# Altium integrated library Analog Devices Data Converters Analog-to-Digital Converters.IntLib: 2400 symbols (part 223 of 338)
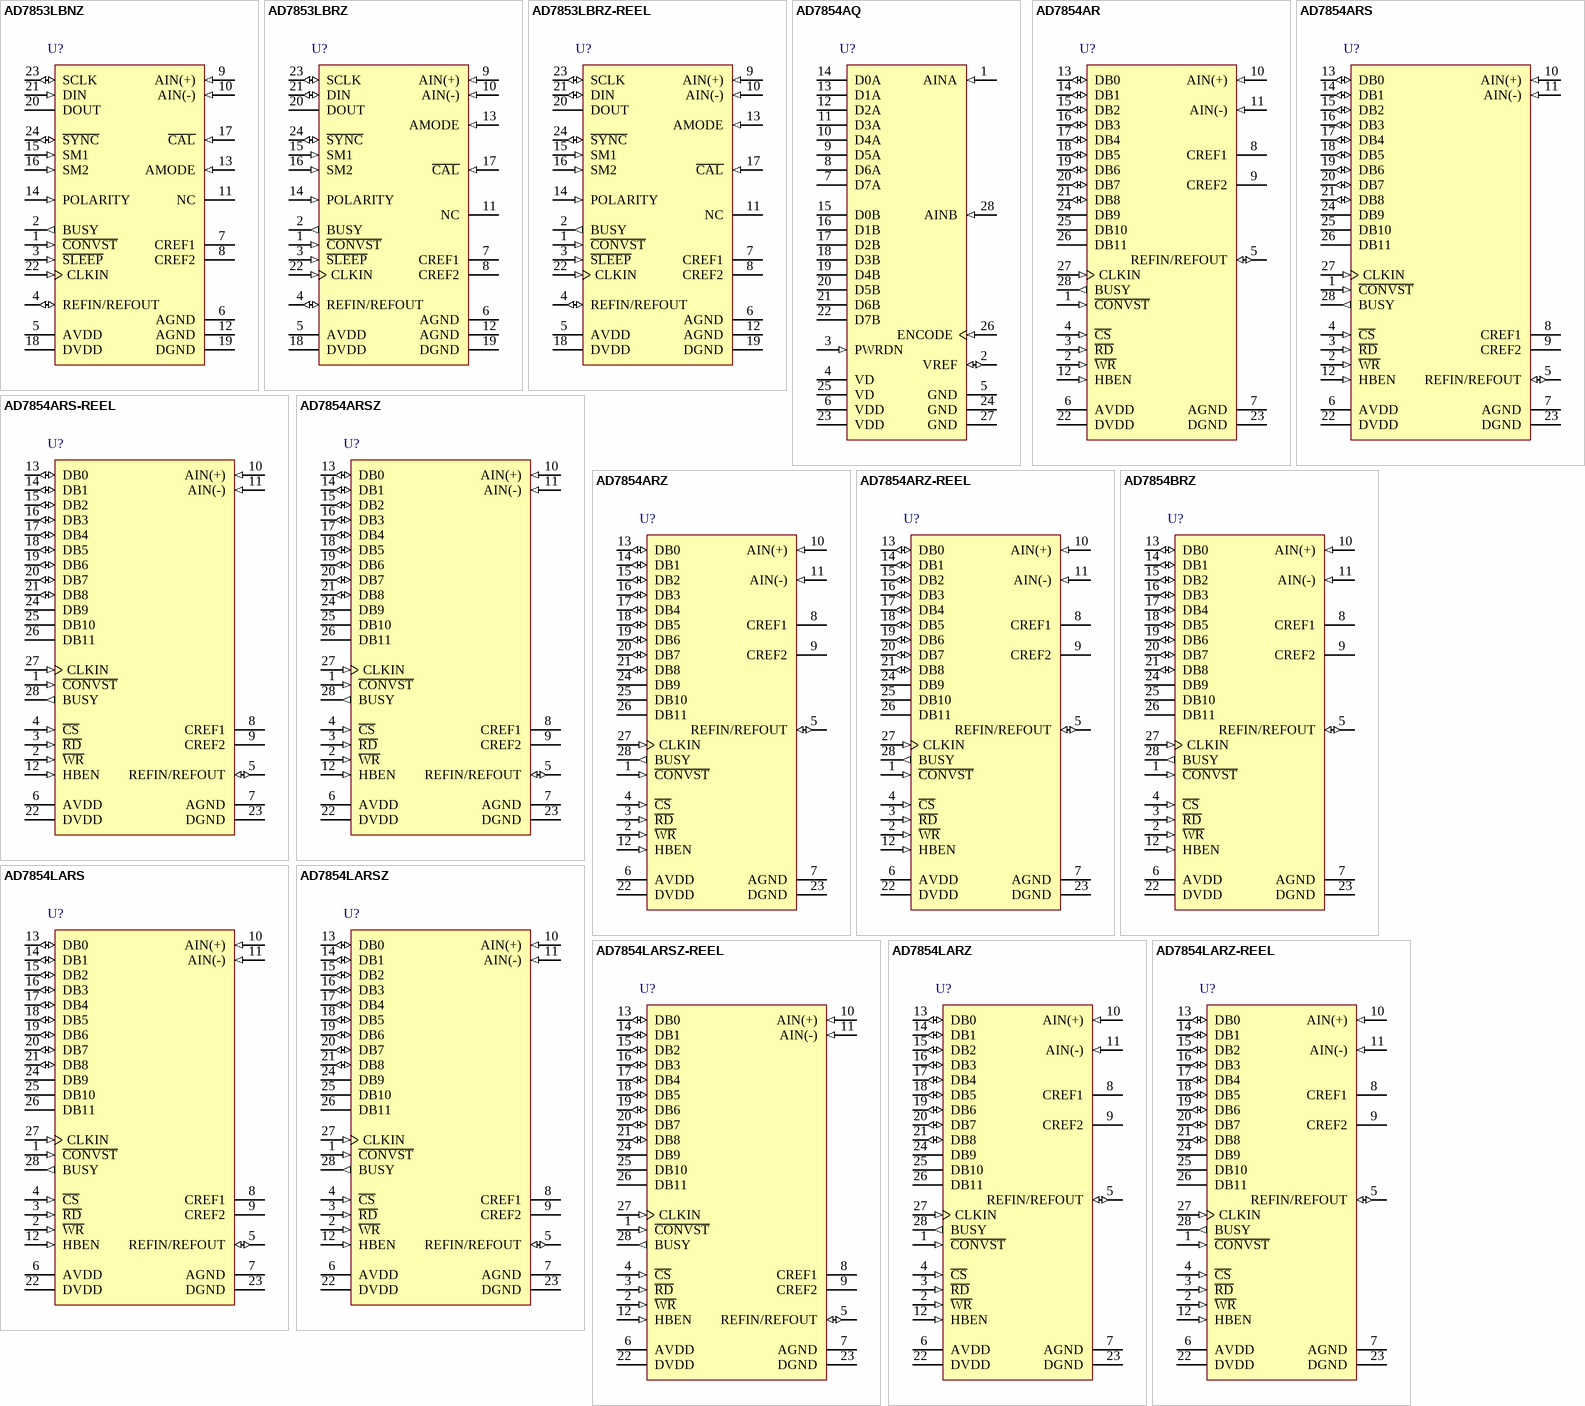
[diagram p277: symbols AD7853LBNZ to AD7854LARZ-REEL]

## AD7854LARS
designator U?
Single 12-Bit Sampling Analog-to-Digital Converter with Byte, Parallel Interface, Single Supply, 3V to 5 V 100KSPS, -40 to +85 degC, RS-28, Tube; Part Number: AD7854L-100; Manufacturer: Analog Devices; Resolution (Bits): 12; Channels: 1; Throughput Rate (SPS): 100K; DatasheetVersion: Rev.B; PackageVersion: 060106-A; PackageReference: RS-28; PackageDescription: 28-Lead Shrink Small Outline Package [SSOP]; Interface: Byte, Par; RoHS: N; Packing: Tube; Mounting Technology: Surface Mount; Code_JEDEC: MO-150-AH; ComponentLink1Description: Manufacturer URL; ComponentLink1URL: http://www.analog.com/en/index.html; ComponentLink2Description: Datasheet; ComponentLink2URL: http://www.analog.com/static/imported-files/data_sheets/AD7854_7854L.pdf; ComponentLink3Description: Package Specification; ComponentLink3URL: http://www.analog.com/static/imported-files/packages/32122249223724RS_28.pdf; ComponentLink4Description: Product URL; ComponentLink4URL: http://www.analog.com/en/analog-to-digital-converters/ad-converters/ad7854/products/product.html
footprint RS-28_N (SOP, 28-Leads, Body 10.2x5.3mm, Pitch 0.65mm, IPC Medium Density)
footprint RS-28_L (SOP, 28-Leads, Body 10.2x5.3mm, Pitch 0.65mm, IPC High Density)
footprint RS-28_M (SOP, 28-Leads, Body 10.2x5.3mm, Pitch 0.65mm, IPC Low Density)
pins: 1 ~{CONVST} (in) "Convert Start. Logic input. A low to high transition on this input puts the track/hold into its hold mode and starts conversion. When this input is not used, it should be tied to DVDD.", 2 ~{WR} (in) "Write Input.  Active low logic input.  Used in conjunction with C\S\ and HBEN to write to internal registers.", 3 ~{RD} (in) "Read Input.  Active low logic input.  Used in conjunction with C\S\ and HBEN to read from internal registers.", 4 ~{CS} (in) "Chip Select Input.  Active low logic input.  The device is selected when this input is active.", 5 REFIN/REFOUT (io) "Reference Input/Output. This pin is connected to the internal reference through a series resistor and is the reference source for the analog-to-digital converter. The nominal reference voltage is 2.5 V and this appears at (See Datasheet)", 6 AVDD (power) "Analog Positive Supply Voltage, +3.0 V to +5.5 V.", 7 AGND (power) "Analog Ground. Ground reference for track/hold, reference and DAC.", 8 CREF1 "Reference Capacitor (0.1 uF  multilayer ceramic). This external capacitor is used as a charge source for the internal DAC. The capacitor should be tied between the pin and AGND.", 9 CREF2 "Reference Capacitor (0.01 uF ceramic disc). This external capacitor is used in conjunction with the on-chip reference. The capacitor should be tied between the pin and AGND.", 10 AIN(+) (in) "Analog Input. Positive input of the pseudo-differential analog input. Cannot go below AGND or above AVDD at any time, and cannot go below AIN(-) when the unipolar input range is selected.", 11 AIN(-) (in) "Analog Input. Negative input of the pseudo-differential analog input. Cannot go below AGND or above AVDD at any time.", 12 HBEN (in) "High Byte Enable Input. The AD7854 operates in byte mode only but outputs 12 bits of data during a read cycle with HBEN low.  When HBEN is high, then the high byte of data that is written to or read from the part is on DB0 (See Datasheet)", 13 DB0 (io) "Data Bits 0. Three state data I/O pins that are controlled by C\S\, R\D\, W\R\ and HBEN.  Data output is straight binary (unipolar mode) or twos complement (bipolar mode).", 14 DB1 (io) "Data Bits 1. Three state data I/O pins that are controlled by C\S\, R\D\, W\R\ and HBEN.  Data output is straight binary (unipolar mode) or twos complement (bipolar mode).", 15 DB2 (io) "Data Bits 2. Three state data I/O pins that are controlled by C\S\, R\D\, W\R\ and HBEN.  Data output is straight binary (unipolar mode) or twos complement (bipolar mode).", 16 DB3 (io) "Data Bits 3. Three state data I/O pins that are controlled by C\S\, R\D\, W\R\ and HBEN.  Data output is straight binary (unipolar mode) or twos complement (bipolar mode).", 17 DB4 (io) "Data Bits 4. Three state data I/O pins that are controlled by C\S\, R\D\, W\R\ and HBEN.  Data output is straight binary (unipolar mode) or twos complement (bipolar mode).", 18 DB5 (io) "Data Bits 5. Three state data I/O pins that are controlled by C\S\, R\D\, W\R\ and HBEN.  Data output is straight binary (unipolar mode) or twos complement (bipolar mode).", 19 DB6 (io) "Data Bits 6. Three state data I/O pins that are controlled by C\S\, R\D\, W\R\ and HBEN.  Data output is straight binary (unipolar mode) or twos complement (bipolar mode).", 20 DB7 (io) "Data Bits 7. Three state data I/O pins that are controlled by C\S\, R\D\, W\R\ and HBEN.  Data output is straight binary (unipolar mode) or twos complement (bipolar mode).", 21 DB8 (io) "Data Bits 8. Three state data I/O pins that are controlled by C\S\, R\D\, W\R\ and HBEN.  Data output is straight binary (unipolar mode) or twos complement (bipolar mode).", 22 DVDD (power) "Digital Supply Voltage, +3.0 V to +5.5 V.", 23 DGND (power) "Digital Ground. Ground reference point for digital circuitry.", 24 DB9 (hiz) "Data Bits 9. Three state data output pins that are controlled by C\S\, R\D\ and HBEN.  Data output is straight binary (unipolar mode) or twos complement (bipolar mode). These output pins should be tied to DVDD via 100 k ohm (See Datasheet)", 25 DB10 (hiz) "Data Bits 10. Three state data output pins that are controlled by C\S\, R\D\ and HBEN.  Data output is straight binary (unipolar mode) or twos complement (bipolar mode). These output pins should be tied to DVDD via 100 k ohm (See Datasheet)", 26 DB11 (hiz) "Data Bits 11. Three state data output pins that are controlled by C\S\, R\D\ and HBEN.  Data output is straight binary (unipolar mode) or twos complement (bipolar mode). These output pins should be tied to DVDD via 100 k ohm (See Datasheet)", 27 CLKIN (in) "Master Clock Signal for the device (4 MHz for AD7854, 1.8 MHz for AD7854L). Sets the conversion and calibration times.", 28 BUSY (out) "Busy Output. The busy output is triggered high by the falling edge of C\O\N\V\S\T\ and remains high until conversion is completed. BUSY is also used to indicate when the AD7854/AD7854L has completed its onchip calibration (See Datasheet)"

## AD7854LARSZ
designator U?
Single 12-Bit Sampling Analog-to-Digital Converter with Byte, Parallel Interface, Single Supply, 3V to 5 V 100KSPS, -40 to +85 degC, RS-28, Pb-Free, Tube; Part Number: AD7854L-100; Manufacturer: Analog Devices; Resolution (Bits): 12; Channels: 1; Throughput Rate (SPS): 100K; DatasheetVersion: Rev.B; PackageVersion: 060106-A; PackageReference: RS-28; PackageDescription: 28-Lead Shrink Small Outline Package [SSOP]; Interface: Byte, Par; RoHS: Y; Packing: Tube; Mounting Technology: Surface Mount; Code_JEDEC: MO-150-AH; ComponentLink1Description: Manufacturer URL; ComponentLink1URL: http://www.analog.com/en/index.html; ComponentLink2Description: Datasheet; ComponentLink2URL: http://www.analog.com/static/imported-files/data_sheets/AD7854_7854L.pdf; ComponentLink3Description: Package Specification; ComponentLink3URL: http://www.analog.com/static/imported-files/packages/32122249223724RS_28.pdf; ComponentLink4Description: Product URL; ComponentLink4URL: http://www.analog.com/en/analog-to-digital-converters/ad-converters/ad7854/products/product.html
footprint RS-28_N (SOP, 28-Leads, Body 10.2x5.3mm, Pitch 0.65mm, IPC Medium Density)
footprint RS-28_L (SOP, 28-Leads, Body 10.2x5.3mm, Pitch 0.65mm, IPC High Density)
footprint RS-28_M (SOP, 28-Leads, Body 10.2x5.3mm, Pitch 0.65mm, IPC Low Density)
pins: 1 ~{CONVST} (in) "Convert Start. Logic input. A low to high transition on this input puts the track/hold into its hold mode and starts conversion. When this input is not used, it should be tied to DVDD.", 2 ~{WR} (in) "Write Input.  Active low logic input.  Used in conjunction with C\S\ and HBEN to write to internal registers.", 3 ~{RD} (in) "Read Input.  Active low logic input.  Used in conjunction with C\S\ and HBEN to read from internal registers.", 4 ~{CS} (in) "Chip Select Input.  Active low logic input.  The device is selected when this input is active.", 5 REFIN/REFOUT (io) "Reference Input/Output. This pin is connected to the internal reference through a series resistor and is the reference source for the analog-to-digital converter. The nominal reference voltage is 2.5 V and this appears at (See Datasheet)", 6 AVDD (power) "Analog Positive Supply Voltage, +3.0 V to +5.5 V.", 7 AGND (power) "Analog Ground. Ground reference for track/hold, reference and DAC.", 8 CREF1 "Reference Capacitor (0.1 uF  multilayer ceramic). This external capacitor is used as a charge source for the internal DAC. The capacitor should be tied between the pin and AGND.", 9 CREF2 "Reference Capacitor (0.01 uF ceramic disc). This external capacitor is used in conjunction with the on-chip reference. The capacitor should be tied between the pin and AGND.", 10 AIN(+) (in) "Analog Input. Positive input of the pseudo-differential analog input. Cannot go below AGND or above AVDD at any time, and cannot go below AIN(-) when the unipolar input range is selected.", 11 AIN(-) (in) "Analog Input. Negative input of the pseudo-differential analog input. Cannot go below AGND or above AVDD at any time.", 12 HBEN (in) "High Byte Enable Input. The AD7854 operates in byte mode only but outputs 12 bits of data during a read cycle with HBEN low.  When HBEN is high, then the high byte of data that is written to or read from the part is on DB0 (See Datasheet)", 13 DB0 (io) "Data Bits 0. Three state data I/O pins that are controlled by C\S\, R\D\, W\R\ and HBEN.  Data output is straight binary (unipolar mode) or twos complement (bipolar mode).", 14 DB1 (io) "Data Bits 1. Three state data I/O pins that are controlled by C\S\, R\D\, W\R\ and HBEN.  Data output is straight binary (unipolar mode) or twos complement (bipolar mode).", 15 DB2 (io) "Data Bits 2. Three state data I/O pins that are controlled by C\S\, R\D\, W\R\ and HBEN.  Data output is straight binary (unipolar mode) or twos complement (bipolar mode).", 16 DB3 (io) "Data Bits 3. Three state data I/O pins that are controlled by C\S\, R\D\, W\R\ and HBEN.  Data output is straight binary (unipolar mode) or twos complement (bipolar mode).", 17 DB4 (io) "Data Bits 4. Three state data I/O pins that are controlled by C\S\, R\D\, W\R\ and HBEN.  Data output is straight binary (unipolar mode) or twos complement (bipolar mode).", 18 DB5 (io) "Data Bits 5. Three state data I/O pins that are controlled by C\S\, R\D\, W\R\ and HBEN.  Data output is straight binary (unipolar mode) or twos complement (bipolar mode).", 19 DB6 (io) "Data Bits 6. Three state data I/O pins that are controlled by C\S\, R\D\, W\R\ and HBEN.  Data output is straight binary (unipolar mode) or twos complement (bipolar mode).", 20 DB7 (io) "Data Bits 7. Three state data I/O pins that are controlled by C\S\, R\D\, W\R\ and HBEN.  Data output is straight binary (unipolar mode) or twos complement (bipolar mode).", 21 DB8 (io) "Data Bits 8. Three state data I/O pins that are controlled by C\S\, R\D\, W\R\ and HBEN.  Data output is straight binary (unipolar mode) or twos complement (bipolar mode).", 22 DVDD (power) "Digital Supply Voltage, +3.0 V to +5.5 V.", 23 DGND (power) "Digital Ground. Ground reference point for digital circuitry.", 24 DB9 (hiz) "Data Bits 9. Three state data output pins that are controlled by C\S\, R\D\ and HBEN.  Data output is straight binary (unipolar mode) or twos complement (bipolar mode). These output pins should be tied to DVDD via 100 k ohm (See Datasheet)", 25 DB10 (hiz) "Data Bits 10. Three state data output pins that are controlled by C\S\, R\D\ and HBEN.  Data output is straight binary (unipolar mode) or twos complement (bipolar mode). These output pins should be tied to DVDD via 100 k ohm (See Datasheet)", 26 DB11 (hiz) "Data Bits 11. Three state data output pins that are controlled by C\S\, R\D\ and HBEN.  Data output is straight binary (unipolar mode) or twos complement (bipolar mode). These output pins should be tied to DVDD via 100 k ohm (See Datasheet)", 27 CLKIN (in) "Master Clock Signal for the device (4 MHz for AD7854, 1.8 MHz for AD7854L). Sets the conversion and calibration times.", 28 BUSY (out) "Busy Output. The busy output is triggered high by the falling edge of C\O\N\V\S\T\ and remains high until conversion is completed. BUSY is also used to indicate when the AD7854/AD7854L has completed its onchip calibration (See Datasheet)"

## AD7854LARSZ-REEL
designator U?
Single 12-Bit Sampling Analog-to-Digital Converter with Byte, Parallel Interface, Single Supply, 3V to 5 V 100KSPS, -40 to +85 degC, RS-28, Pb-Free, Reel; Part Number: AD7854L-100; Manufacturer: Analog Devices; Resolution (Bits): 12; Channels: 1; Throughput Rate (SPS): 100K; DatasheetVersion: Rev.B; PackageVersion: 060106-A; PackageReference: RS-28; PackageDescription: 28-Lead Shrink Small Outline Package [SSOP]; Interface: Byte, Par; RoHS: Y; Packing: Reel; Mounting Technology: Surface Mount; Code_JEDEC: MO-150-AH; ComponentLink1Description: Manufacturer URL; ComponentLink1URL: http://www.analog.com/en/index.html; ComponentLink2Description: Datasheet; ComponentLink2URL: http://www.analog.com/static/imported-files/data_sheets/AD7854_7854L.pdf; ComponentLink3Description: Package Specification; ComponentLink3URL: http://www.analog.com/static/imported-files/packages/32122249223724RS_28.pdf; ComponentLink4Description: Product URL; ComponentLink4URL: http://www.analog.com/en/analog-to-digital-converters/ad-converters/ad7854/products/product.html
footprint RS-28_N (SOP, 28-Leads, Body 10.2x5.3mm, Pitch 0.65mm, IPC Medium Density)
footprint RS-28_L (SOP, 28-Leads, Body 10.2x5.3mm, Pitch 0.65mm, IPC High Density)
footprint RS-28_M (SOP, 28-Leads, Body 10.2x5.3mm, Pitch 0.65mm, IPC Low Density)
pins: 1 ~{CONVST} (in) "Convert Start. Logic input. A low to high transition on this input puts the track/hold into its hold mode and starts conversion. When this input is not used, it should be tied to DVDD.", 2 ~{WR} (in) "Write Input.  Active low logic input.  Used in conjunction with C\S\ and HBEN to write to internal registers.", 3 ~{RD} (in) "Read Input.  Active low logic input.  Used in conjunction with C\S\ and HBEN to read from internal registers.", 4 ~{CS} (in) "Chip Select Input.  Active low logic input.  The device is selected when this input is active.", 5 REFIN/REFOUT (io) "Reference Input/Output. This pin is connected to the internal reference through a series resistor and is the reference source for the analog-to-digital converter. The nominal reference voltage is 2.5 V and this appears at (See Datasheet)", 6 AVDD (power) "Analog Positive Supply Voltage, +3.0 V to +5.5 V.", 7 AGND (power) "Analog Ground. Ground reference for track/hold, reference and DAC.", 8 CREF1 "Reference Capacitor (0.1 uF  multilayer ceramic). This external capacitor is used as a charge source for the internal DAC. The capacitor should be tied between the pin and AGND.", 9 CREF2 "Reference Capacitor (0.01 uF ceramic disc). This external capacitor is used in conjunction with the on-chip reference. The capacitor should be tied between the pin and AGND.", 10 AIN(+) (in) "Analog Input. Positive input of the pseudo-differential analog input. Cannot go below AGND or above AVDD at any time, and cannot go below AIN(-) when the unipolar input range is selected.", 11 AIN(-) (in) "Analog Input. Negative input of the pseudo-differential analog input. Cannot go below AGND or above AVDD at any time.", 12 HBEN (in) "High Byte Enable Input. The AD7854 operates in byte mode only but outputs 12 bits of data during a read cycle with HBEN low.  When HBEN is high, then the high byte of data that is written to or read from the part is on DB0 (See Datasheet)", 13 DB0 (io) "Data Bits 0. Three state data I/O pins that are controlled by C\S\, R\D\, W\R\ and HBEN.  Data output is straight binary (unipolar mode) or twos complement (bipolar mode).", 14 DB1 (io) "Data Bits 1. Three state data I/O pins that are controlled by C\S\, R\D\, W\R\ and HBEN.  Data output is straight binary (unipolar mode) or twos complement (bipolar mode).", 15 DB2 (io) "Data Bits 2. Three state data I/O pins that are controlled by C\S\, R\D\, W\R\ and HBEN.  Data output is straight binary (unipolar mode) or twos complement (bipolar mode).", 16 DB3 (io) "Data Bits 3. Three state data I/O pins that are controlled by C\S\, R\D\, W\R\ and HBEN.  Data output is straight binary (unipolar mode) or twos complement (bipolar mode).", 17 DB4 (io) "Data Bits 4. Three state data I/O pins that are controlled by C\S\, R\D\, W\R\ and HBEN.  Data output is straight binary (unipolar mode) or twos complement (bipolar mode).", 18 DB5 (io) "Data Bits 5. Three state data I/O pins that are controlled by C\S\, R\D\, W\R\ and HBEN.  Data output is straight binary (unipolar mode) or twos complement (bipolar mode).", 19 DB6 (io) "Data Bits 6. Three state data I/O pins that are controlled by C\S\, R\D\, W\R\ and HBEN.  Data output is straight binary (unipolar mode) or twos complement (bipolar mode).", 20 DB7 (io) "Data Bits 7. Three state data I/O pins that are controlled by C\S\, R\D\, W\R\ and HBEN.  Data output is straight binary (unipolar mode) or twos complement (bipolar mode).", 21 DB8 (io) "Data Bits 8. Three state data I/O pins that are controlled by C\S\, R\D\, W\R\ and HBEN.  Data output is straight binary (unipolar mode) or twos complement (bipolar mode).", 22 DVDD (power) "Digital Supply Voltage, +3.0 V to +5.5 V.", 23 DGND (power) "Digital Ground. Ground reference point for digital circuitry.", 24 DB9 (hiz) "Data Bits 9. Three state data output pins that are controlled by C\S\, R\D\ and HBEN.  Data output is straight binary (unipolar mode) or twos complement (bipolar mode). These output pins should be tied to DVDD via 100 k ohm (See Datasheet)", 25 DB10 (hiz) "Data Bits 10. Three state data output pins that are controlled by C\S\, R\D\ and HBEN.  Data output is straight binary (unipolar mode) or twos complement (bipolar mode). These output pins should be tied to DVDD via 100 k ohm (See Datasheet)", 26 DB11 (hiz) "Data Bits 11. Three state data output pins that are controlled by C\S\, R\D\ and HBEN.  Data output is straight binary (unipolar mode) or twos complement (bipolar mode). These output pins should be tied to DVDD via 100 k ohm (See Datasheet)", 27 CLKIN (in) "Master Clock Signal for the device (4 MHz for AD7854, 1.8 MHz for AD7854L). Sets the conversion and calibration times.", 28 BUSY (out) "Busy Output. The busy output is triggered high by the falling edge of C\O\N\V\S\T\ and remains high until conversion is completed. BUSY is also used to indicate when the AD7854/AD7854L has completed its onchip calibration (See Datasheet)"

## AD7854LARZ
designator U?
Single 12-Bit Sampling Analog-to-Digital Converter with Byte, Parallel Interface, Single Supply, 3V to 5 V 100KSPS, -40 to +85 degC, RW-28, Pb-Free, Tube; Part Number: AD7854L-100; Manufacturer: Analog Devices; Resolution (Bits): 12; Channels: 1; Throughput Rate (SPS): 100K; DatasheetVersion: Rev.B; PackageVersion: 060706-A; PackageReference: RW-28; PackageDescription: 28-Lead Standard Small Outline Package [SOIC_W]; Interface: Byte, Par; RoHS: Y; Packing: Tube; Mounting Technology: Surface Mount; Code_JEDEC: MS-013-AE; ComponentLink1Description: Manufacturer URL; ComponentLink1URL: http://www.analog.com/en/index.html; ComponentLink2Description: Datasheet; ComponentLink2URL: http://www.analog.com/static/imported-files/data_sheets/AD7854_7854L.pdf; ComponentLink3Description: Package Specification; ComponentLink3URL: http://www.analog.com/static/imported-files/packages/35833120341221RW_28.pdf; ComponentLink4Description: Product URL; ComponentLink4URL: http://www.analog.com/en/analog-to-digital-converters/ad-converters/ad7854/products/product.html
footprint RW-28_N (SOIC, 28-Leads, Body 17.9x7.5mm, Pitch 1.27mm, IPC Medium Density)
footprint RW-28_L (SOIC, 28-Leads, Body 17.9x7.5mm, Pitch 1.27mm, IPC High Density)
footprint RW-28_M (SOIC, 28-Leads, Body 17.9x7.5mm, Pitch 1.27mm, IPC Low Density)
pins: 1 ~{CONVST} (in) "Convert Start. Logic input. A low to high transition on this input puts the track/hold into its hold mode and starts conversion. When this input is not used, it should be tied to DVDD.", 2 ~{WR} (in) "Write Input.  Active low logic input.  Used in conjunction with C\S\ and HBEN to write to internal registers.", 3 ~{RD} (in) "Read Input.  Active low logic input.  Used in conjunction with C\S\ and HBEN to read from internal registers.", 4 ~{CS} (in) "Chip Select Input.  Active low logic input.  The device is selected when this input is active.", 5 REFIN/REFOUT (io) "Reference Input/Output. This pin is connected to the internal reference through a series resistor and is the reference source for the analog-to-digital converter. The nominal reference voltage is 2.5 V and this appears at (See Datasheet)", 6 AVDD (power) "Analog Positive Supply Voltage, +3.0 V to +5.5 V.", 7 AGND (power) "Analog Ground. Ground reference for track/hold, reference and DAC.", 8 CREF1 "Reference Capacitor (0.1 µF  multilayer ceramic). This external capacitor is used as a charge source for the internal DAC. The capacitor should be tied between the pin and AGND.", 9 CREF2 "Reference Capacitor (0.01 µF ceramic disc). This external capacitor is used in conjunction with the on-chip reference. The capacitor should be tied between the pin and AGND.", 10 AIN(+) (in) "Analog Input. Positive input of the pseudo-differential analog input. Cannot go below AGND or above AVDD at any time, and cannot go below AIN(-) when the unipolar input range is selected.", 11 AIN(-) (in) "Analog Input. Negative input of the pseudo-differential analog input. Cannot go below AGND or above AVDD at any time.", 12 HBEN (in) "High Byte Enable Input. The AD7854 operates in byte mode only but outputs 12 bits of data during a read cycle with HBEN low.  When HBEN is high, then the high byte of data that is written to or read from the part is on DB0 (See Datasheet)", 13 DB0 (io) "Data Bits 0. Three state data I/O pins that are controlled by C\S\, R\D\, W\R\ and HBEN.  Data output is straight binary (unipolar mode) or twos complement (bipolar mode).", 14 DB1 (io) "Data Bits 1. Three state data I/O pins that are controlled by C\S\, R\D\, W\R\ and HBEN.  Data output is straight binary (unipolar mode) or twos complement (bipolar mode).", 15 DB2 (io) "Data Bits 2. Three state data I/O pins that are controlled by C\S\, R\D\, W\R\ and HBEN.  Data output is straight binary (unipolar mode) or twos complement (bipolar mode).", 16 DB3 (io) "Data Bits 3. Three state data I/O pins that are controlled by C\S\, R\D\, W\R\ and HBEN.  Data output is straight binary (unipolar mode) or twos complement (bipolar mode).", 17 DB4 (io) "Data Bits 4. Three state data I/O pins that are controlled by C\S\, R\D\, W\R\ and HBEN.  Data output is straight binary (unipolar mode) or twos complement (bipolar mode).", 18 DB5 (io) "Data Bits 5. Three state data I/O pins that are controlled by C\S\, R\D\, W\R\ and HBEN.  Data output is straight binary (unipolar mode) or twos complement (bipolar mode).", 19 DB6 (io) "Data Bits 6. Three state data I/O pins that are controlled by C\S\, R\D\, W\R\ and HBEN.  Data output is straight binary (unipolar mode) or twos complement (bipolar mode).", 20 DB7 (io) "Data Bits 7. Three state data I/O pins that are controlled by C\S\, R\D\, W\R\ and HBEN.  Data output is straight binary (unipolar mode) or twos complement (bipolar mode).", 21 DB8 (io) "Data Bits 8. Three state data I/O pins that are controlled by C\S\, R\D\, W\R\ and HBEN.  Data output is straight binary (unipolar mode) or twos complement (bipolar mode).", 22 DVDD (power) "Digital Supply Voltage, +3.0 V to +5.5 V.", 23 DGND (power) "Digital Ground. Ground reference point for digital circuitry.", 24 DB9 (hiz) "Data Bits 9. Three state data output pins that are controlled by C\S\, R\D\ and HBEN.  Data output is straight binary (unipolar mode) or twos complement (bipolar mode). These output pins should be tied to DVDD via 100 k ohm (See Datasheet)", 25 DB10 (hiz) "Data Bits 10. Three state data output pins that are controlled by C\S\, R\D\ and HBEN.  Data output is straight binary (unipolar mode) or twos complement (bipolar mode). These output pins should be tied to DVDD via 100 k ohm (See Datasheet)", 26 DB11 (hiz) "Data Bits 11. Three state data output pins that are controlled by C\S\, R\D\ and HBEN.  Data output is straight binary (unipolar mode) or twos complement (bipolar mode). These output pins should be tied to DVDD via 100 k ohm (See Datasheet)", 27 CLKIN (in) "Master Clock Signal for the device (4 MHz for AD7854, 1.8 MHz for AD7854L). Sets the conversion and calibration times.", 28 BUSY (out) "Busy Output. The busy output is triggered high by the falling edge of C\O\N\V\S\T\ and remains high until conversion is completed. BUSY is also used to indicate when the AD7854/AD7854L has completed its onchip calibration (See Datasheet)"

## AD7854LARZ-REEL
designator U?
Single 12-Bit Sampling Analog-to-Digital Converter with Byte, Parallel Interface, Single Supply, 3V to 5 V 100KSPS, -40 to +85 degC, RW-28, Pb-Free, Reel; Part Number: AD7854L-100; Manufacturer: Analog Devices; Resolution (Bits): 12; Channels: 1; Throughput Rate (SPS): 100K; DatasheetVersion: Rev.B; PackageVersion: 060706-A; PackageReference: RW-28; PackageDescription: 28-Lead Standard Small Outline Package [SOIC_W]; Interface: Byte, Par; RoHS: Y; Packing: Reel; Mounting Technology: Surface Mount; Code_JEDEC: MS-013-AE; ComponentLink1Description: Manufacturer URL; ComponentLink1URL: http://www.analog.com/en/index.html; ComponentLink2Description: Datasheet; ComponentLink2URL: http://www.analog.com/static/imported-files/data_sheets/AD7854_7854L.pdf; ComponentLink3Description: Package Specification; ComponentLink3URL: http://www.analog.com/static/imported-files/packages/35833120341221RW_28.pdf; ComponentLink4Description: Product URL; ComponentLink4URL: http://www.analog.com/en/analog-to-digital-converters/ad-converters/ad7854/products/product.html
footprint RW-28_N (SOIC, 28-Leads, Body 17.9x7.5mm, Pitch 1.27mm, IPC Medium Density)
footprint RW-28_L (SOIC, 28-Leads, Body 17.9x7.5mm, Pitch 1.27mm, IPC High Density)
footprint RW-28_M (SOIC, 28-Leads, Body 17.9x7.5mm, Pitch 1.27mm, IPC Low Density)
pins: 1 ~{CONVST} (in) "Convert Start. Logic input. A low to high transition on this input puts the track/hold into its hold mode and starts conversion. When this input is not used, it should be tied to DVDD.", 2 ~{WR} (in) "Write Input.  Active low logic input.  Used in conjunction with C\S\ and HBEN to write to internal registers.", 3 ~{RD} (in) "Read Input.  Active low logic input.  Used in conjunction with C\S\ and HBEN to read from internal registers.", 4 ~{CS} (in) "Chip Select Input.  Active low logic input.  The device is selected when this input is active.", 5 REFIN/REFOUT (io) "Reference Input/Output. This pin is connected to the internal reference through a series resistor and is the reference source for the analog-to-digital converter. The nominal reference voltage is 2.5 V and this appears at (See Datasheet)", 6 AVDD (power) "Analog Positive Supply Voltage, +3.0 V to +5.5 V.", 7 AGND (power) "Analog Ground. Ground reference for track/hold, reference and DAC.", 8 CREF1 "Reference Capacitor (0.1 µF  multilayer ceramic). This external capacitor is used as a charge source for the internal DAC. The capacitor should be tied between the pin and AGND.", 9 CREF2 "Reference Capacitor (0.01 µF ceramic disc). This external capacitor is used in conjunction with the on-chip reference. The capacitor should be tied between the pin and AGND.", 10 AIN(+) (in) "Analog Input. Positive input of the pseudo-differential analog input. Cannot go below AGND or above AVDD at any time, and cannot go below AIN(-) when the unipolar input range is selected.", 11 AIN(-) (in) "Analog Input. Negative input of the pseudo-differential analog input. Cannot go below AGND or above AVDD at any time.", 12 HBEN (in) "High Byte Enable Input. The AD7854 operates in byte mode only but outputs 12 bits of data during a read cycle with HBEN low.  When HBEN is high, then the high byte of data that is written to or read from the part is on DB0 (See Datasheet)", 13 DB0 (io) "Data Bits 0. Three state data I/O pins that are controlled by C\S\, R\D\, W\R\ and HBEN.  Data output is straight binary (unipolar mode) or twos complement (bipolar mode).", 14 DB1 (io) "Data Bits 1. Three state data I/O pins that are controlled by C\S\, R\D\, W\R\ and HBEN.  Data output is straight binary (unipolar mode) or twos complement (bipolar mode).", 15 DB2 (io) "Data Bits 2. Three state data I/O pins that are controlled by C\S\, R\D\, W\R\ and HBEN.  Data output is straight binary (unipolar mode) or twos complement (bipolar mode).", 16 DB3 (io) "Data Bits 3. Three state data I/O pins that are controlled by C\S\, R\D\, W\R\ and HBEN.  Data output is straight binary (unipolar mode) or twos complement (bipolar mode).", 17 DB4 (io) "Data Bits 4. Three state data I/O pins that are controlled by C\S\, R\D\, W\R\ and HBEN.  Data output is straight binary (unipolar mode) or twos complement (bipolar mode).", 18 DB5 (io) "Data Bits 5. Three state data I/O pins that are controlled by C\S\, R\D\, W\R\ and HBEN.  Data output is straight binary (unipolar mode) or twos complement (bipolar mode).", 19 DB6 (io) "Data Bits 6. Three state data I/O pins that are controlled by C\S\, R\D\, W\R\ and HBEN.  Data output is straight binary (unipolar mode) or twos complement (bipolar mode).", 20 DB7 (io) "Data Bits 7. Three state data I/O pins that are controlled by C\S\, R\D\, W\R\ and HBEN.  Data output is straight binary (unipolar mode) or twos complement (bipolar mode).", 21 DB8 (io) "Data Bits 8. Three state data I/O pins that are controlled by C\S\, R\D\, W\R\ and HBEN.  Data output is straight binary (unipolar mode) or twos complement (bipolar mode).", 22 DVDD (power) "Digital Supply Voltage, +3.0 V to +5.5 V.", 23 DGND (power) "Digital Ground. Ground reference point for digital circuitry.", 24 DB9 (hiz) "Data Bits 9. Three state data output pins that are controlled by C\S\, R\D\ and HBEN.  Data output is straight binary (unipolar mode) or twos complement (bipolar mode). These output pins should be tied to DVDD via 100 k ohm (See Datasheet)", 25 DB10 (hiz) "Data Bits 10. Three state data output pins that are controlled by C\S\, R\D\ and HBEN.  Data output is straight binary (unipolar mode) or twos complement (bipolar mode). These output pins should be tied to DVDD via 100 k ohm (See Datasheet)", 26 DB11 (hiz) "Data Bits 11. Three state data output pins that are controlled by C\S\, R\D\ and HBEN.  Data output is straight binary (unipolar mode) or twos complement (bipolar mode). These output pins should be tied to DVDD via 100 k ohm (See Datasheet)", 27 CLKIN (in) "Master Clock Signal for the device (4 MHz for AD7854, 1.8 MHz for AD7854L). Sets the conversion and calibration times.", 28 BUSY (out) "Busy Output. The busy output is triggered high by the falling edge of C\O\N\V\S\T\ and remains high until conversion is completed. BUSY is also used to indicate when the AD7854/AD7854L has completed its onchip calibration (See Datasheet)"

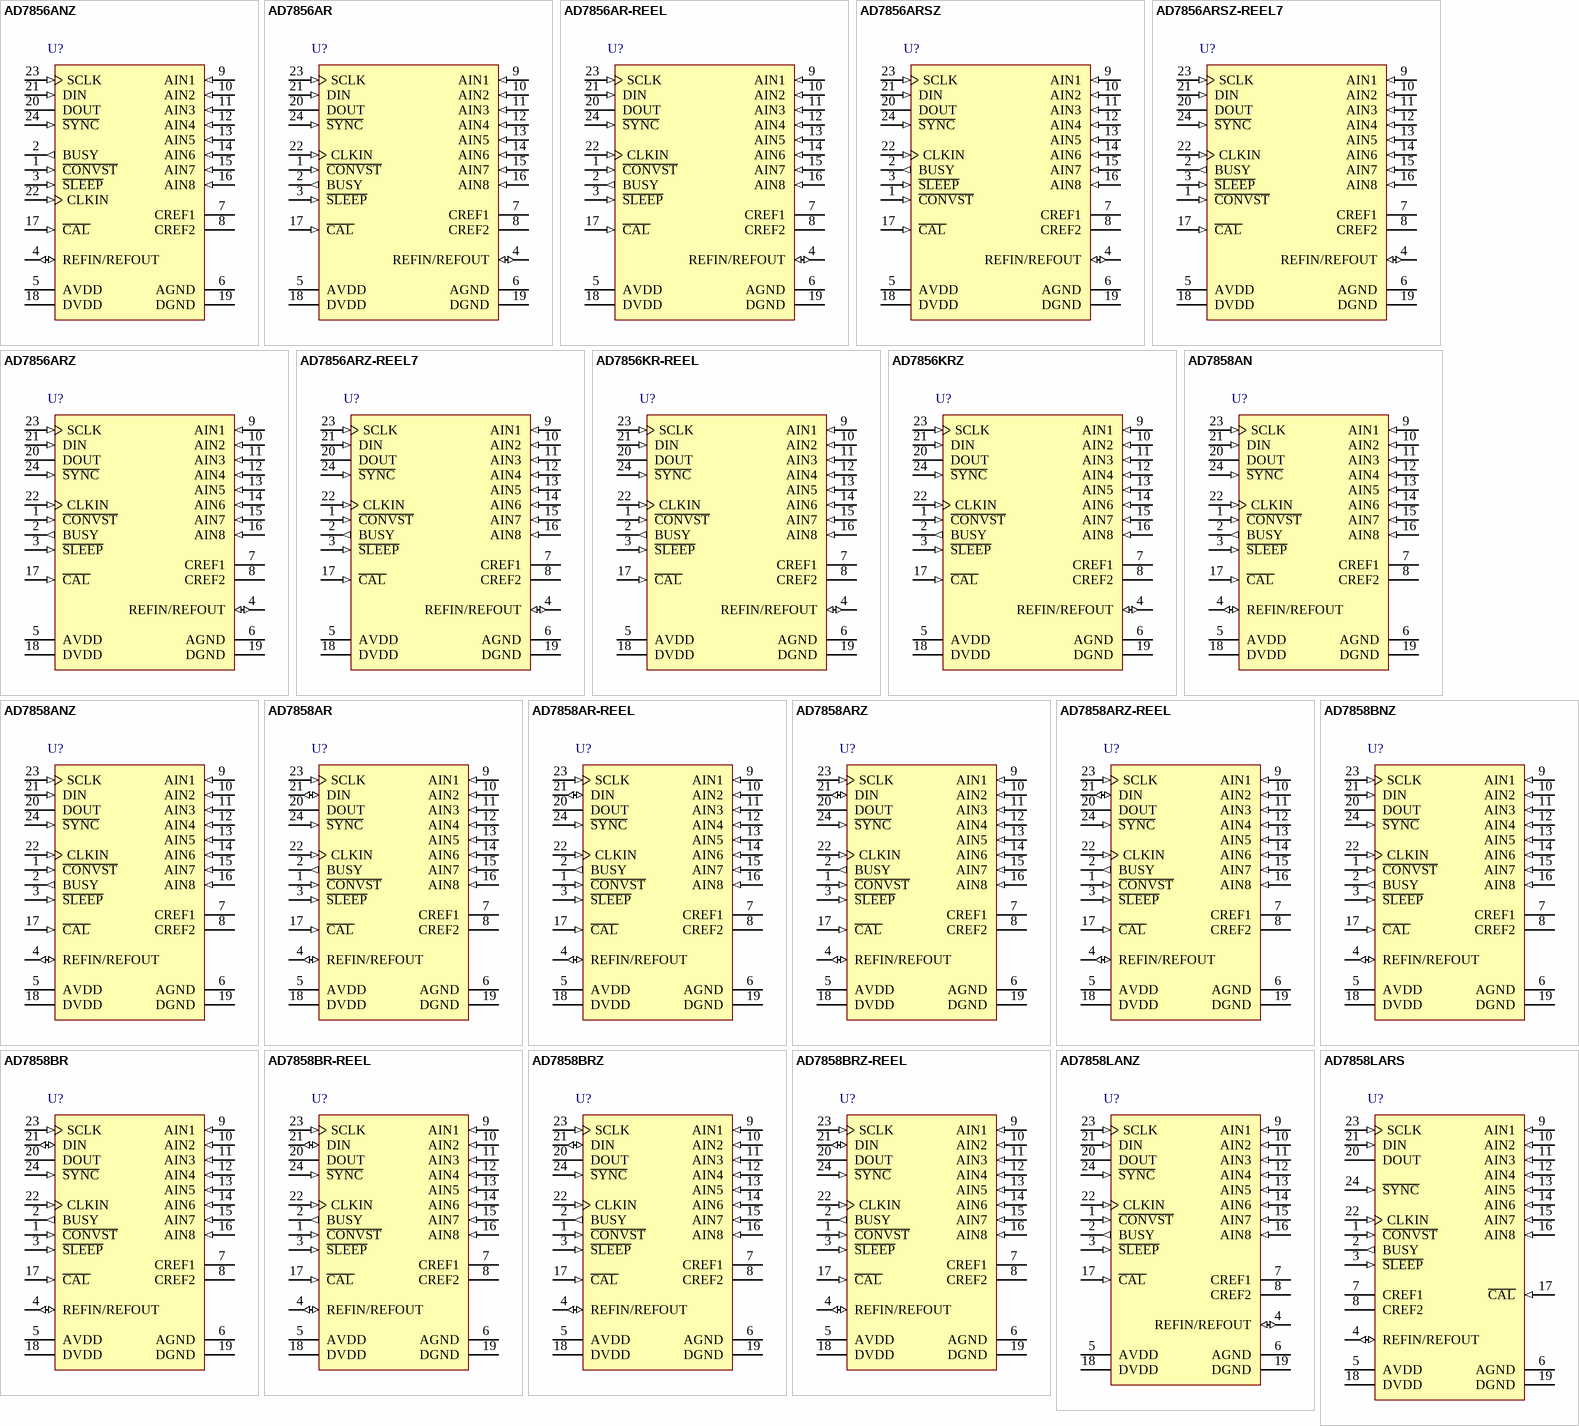
[diagram p69: symbols AD7856ANZ to AD7858LARS]

## AD7856ANZ
designator U?
Octal 14-Bit Sampling Analog-to-Digital Converter with Serial, SPI Interface, 5 V 285KSPS, -40 to +85 degC, N-24-1, Pb-Free, Tube; Part Number: AD7856; Manufacturer: Analog Devices; Resolution (Bits): 14; Channels: 8; Throughput Rate (SPS): 285K; Interface: Ser, SPI; DatasheetVersion: Rev.A; PackageVersion: 071006-A; PackageReference: N-24-1; PackageDescription: 24-Lead Plastic Dual In-Line Package [PDIP] Narrow Body; RoHS: Y; Packing: Tube; Mounting Technology: Through-hole; Code_JEDEC: MS-001; ComponentLink1Description: Manufacturer URL; ComponentLink1URL: http://www.analog.com/en/index.html; ComponentLink2Description: Datasheet; ComponentLink2URL: http://www.analog.com/static/imported-files/data_sheets/AD7856.pdf; ComponentLink3Description: Package Specification; ComponentLink3URL: http://www.analog.com/static/imported-files/packages/50726455539629N_24_1.pdf; ComponentLink4Description: Product URL; ComponentLink4URL: http://www.analog.com/en/analog-to-digital-converters/ad-converters/ad7856/products/product.html
footprint N-24-1 (DIP, 24-Leads, Row Spacing 7.62mm, Pitch 2.54mm, Body 31.9x6.6mm)
pins: 1 ~{CONVST} (in) "Convert Start. Logic Input. A low to high transition on this input puts the track/hold into its hold mode and starts conversion. When this input is not used, it should be tied to DVDD.", 2 BUSY (out) "Busy Output. The busy output is triggered high by the falling edge of C\O\N\V\S\T\ or rising edge of C\A\L\, and remains high until conversion is completed. BUSY is also used to indicate when the AD7856 has completed its (See Datasheet)", 3 ~{SLEEP} (in) "Sleep Input/Low Power Mode. A Logic 0 initiates a sleep, and all circuitry is powered down, including the internal voltage reference, provided there is no conversion or calibration being performed. Calibration data is (See Datasheet)", 4 REFIN/REFOUT (io) "Reference Input/Output. This pin is connected to the internal reference through a series resistor and is the reference source for the analog-to-digital converter. The nominal reference voltage is 4.096 V and this appears at (See Datasheet)", 5 AVDD (power) "Analog Positive Supply Voltage, +5.0 V +/- 5%.", 6 AGND (power) "Analog Ground. Ground reference for track/hold, reference and DAC.", 7 CREF1 "Reference Capacitor (0.1 mF Multilayer Ceramic in parallel with a 470 nF NPO type). This external capacitor is used as a charge source for the internal DAC. The capacitor should be tied between the pin and AGND.", 8 CREF2 "Reference Capacitor (0.01 mF Multilayer Ceramic). This external capacitor is used in conjunction with the on-chip reference. The capacitor should be tied between the pin and AGND.", 9 AIN1 (in) "Analog Inputs. Eight analog inputs that can be used as eight single-ended inputs (referenced to AGND) or four pseudo-differential inputs. Channel configuration is selected by writing to the control register. Both the (See Datasheet)", 10 AIN2 (in) "Analog Inputs. Eight analog inputs that can be used as eight single-ended inputs (referenced to AGND) or four pseudo-differential inputs. Channel configuration is selected by writing to the control register. Both the (See Datasheet)", 11 AIN3 (in) "Analog Inputs. Eight analog inputs that can be used as eight single-ended inputs (referenced to AGND) or four pseudo-differential inputs. Channel configuration is selected by writing to the control register. Both the (See Datasheet)", 12 AIN4 (in) "Analog Inputs. Eight analog inputs that can be used as eight single-ended inputs (referenced to AGND) or four pseudo-differential inputs. Channel configuration is selected by writing to the control register. Both the (See Datasheet)", 13 AIN5 (in) "Analog Inputs. Eight analog inputs that can be used as eight single-ended inputs (referenced to AGND) or four pseudo-differential inputs. Channel configuration is selected by writing to the control register. Both the (See Datasheet)", 14 AIN6 (in) "Analog Inputs. Eight analog inputs that can be used as eight single-ended inputs (referenced to AGND) or four pseudo-differential inputs. Channel configuration is selected by writing to the control register. Both the (See Datasheet)", 15 AIN7 (in) "Analog Inputs. Eight analog inputs that can be used as eight single-ended inputs (referenced to AGND) or four pseudo-differential inputs. Channel configuration is selected by writing to the control register. Both the (See Datasheet)", 16 AIN8 (in) "Analog Inputs. Eight analog inputs that can be used as eight single-ended inputs (referenced to AGND) or four pseudo-differential inputs. Channel configuration is selected by writing to the control register. Both the (See Datasheet)", 17 ~{CAL} (in) "Calibration Input. This pin has an internal pull-up current source of 0.15 mA. A falling edge on this pin resets all calibration control logic and initiates a calibration on its rising edge. There is the option of connecting (See Datasheet)", 18 DVDD (power) "Digital Supply Voltage, +5.0 V +/- 5%.", 19 DGND (power) "Digital Ground. Ground reference point for digital circuitry.", 20 DOUT (hiz) "Serial Data Output. The data output is supplied to this pin as a 16-bit serial word.", 21 DIN (in) "Serial Data Input. The data to be written is applied to this pin in serial form (16-bit word). This pin can act as an input pin or as a I/O pin depending on the serial interface mode the part is in (see Table X).", 22 CLKIN (in) "Master clock signal for the device (A Grade: 6 MHz; K Grade: 4 MHz). Sets the conversion and calibration times.", 23 SCLK (in) "Serial Port Clock. Logic Input. The user must provide a serial clock on this input.", 24 ~{SYNC} (in) "Frame Sync. Logic Input. This pin is level triggered active low and frames the serial clock for the read and write operations (see Table IX)."

## AD7856AR
designator U?
Octal 14-Bit Sampling Analog-to-Digital Converter with Serial, SPI Interface, 5 V 285KSPS, -40 to +85 degC, RW-24, Tube; Part Number: AD7856; Manufacturer: Analog Devices; Resolution (Bits): 14; Channels: 8; Throughput Rate (SPS): 285K; Interface: Ser, SPI; DatasheetVersion: Rev.A; PackageVersion: 060706-A; PackageReference: RW-24; PackageDescription: 24-Lead Standard Small Outline Package [SOIC_W]; RoHS: N; Packing: Tube; Mounting Technology: Surface Mount; Code_JEDEC: MS-013-AD; ComponentLink1Description: Manufacturer URL; ComponentLink1URL: http://www.analog.com/en/index.html; ComponentLink2Description: Datasheet; ComponentLink2URL: http://www.analog.com/static/imported-files/data_sheets/AD7856.pdf; ComponentLink3Description: Package Specification; ComponentLink3URL: http://www.analog.com/static/imported-files/packages/33665150946139RW_24.pdf; ComponentLink4Description: Product URL; ComponentLink4URL: http://www.analog.com/en/analog-to-digital-converters/ad-converters/ad7856/products/product.html
footprint RW-24_N (SOIC, 24-Leads, Body 15.4x7.5mm, Pitch 1.27mm, IPC Medium Density)
footprint RW-24_L (SOIC, 24-Leads, Body 15.4x7.5mm, Pitch 1.27mm, IPC High Density)
footprint RW-24_M (SOIC, 24-Leads, Body 15.4x7.5mm, Pitch 1.27mm, IPC Low Density)
pins: 1 ~{CONVST} (in) "Convert Start. Logic Input. A low to high transition on this input puts the track/hold into its hold mode and starts conversion. When this input is not used, it should be tied to DVDD.", 2 BUSY (out) "Busy Output. The busy output is triggered high by the falling edge of C\O\N\V\S\T\ or rising edge of C\A\L\,and remains high until conversion is completed. BUSY is also used to indicate when the AD7856 has completed its (See Datasheet)", 3 ~{SLEEP} (in) "Sleep Input/Low Power Mode. A Logic 0 initiates a sleep, and all circuitry is powered down, including the internal voltage reference, provided there is no conversion or calibration being performed. Calibration data is (See Datasheet)", 4 REFIN/REFOUT (io) "Reference Input/Output. This pin is connected to the internal reference through a series resistor and is the reference source for the analog-to-digital converter. The nominal reference voltage is 4.096 V and this appears at (See Datasheet)", 5 AVDD (power) "Analog Positive Supply Voltage, +5.0 V +/- 5%.", 6 AGND (power) "Analog Ground. Ground reference for track/hold, reference and DAC.", 7 CREF1 "Reference Capacitor (0.1 uF Multilayer Ceramic in parallel with a 470 nF NPO type). This external capacitor is used as a charge source for the internal DAC. The capacitor should be tied between the pin and AGND.", 8 CREF2 "Reference Capacitor (0.01 uF Multilayer Ceramic). This external capacitor is used in conjunction with the on-chip reference. The capacitor should be tied between the pin and AGND.", 9 AIN1 (in) "Analog Inputs. Eight analog inputs that can be used as eight single-ended inputs (referenced to AGND) or four pseudo-differential inputs. Channel configuration is selected by writing to the control register. Both the (See Datasheet)", 10 AIN2 (in) "Analog Inputs. Eight analog inputs that can be used as eight single-ended inputs (referenced to AGND) or four pseudo-differential inputs. Channel configuration is selected by writing to the control register. Both the (See Datasheet)", 11 AIN3 (in) "Analog Inputs. Eight analog inputs that can be used as eight single-ended inputs (referenced to AGND) or four pseudo-differential inputs. Channel configuration is selected by writing to the control register. Both the (See Datasheet)", 12 AIN4 (in) "Analog Inputs. Eight analog inputs that can be used as eight single-ended inputs (referenced to AGND) or four pseudo-differential inputs. Channel configuration is selected by writing to the control register. Both the (See Datasheet)", 13 AIN5 (in) "Analog Inputs. Eight analog inputs that can be used as eight single-ended inputs (referenced to AGND) or four pseudo-differential inputs. Channel configuration is selected by writing to the control register. Both the (See Datasheet)", 14 AIN6 (in) "Analog Inputs. Eight analog inputs that can be used as eight single-ended inputs (referenced to AGND) or four pseudo-differential inputs. Channel configuration is selected by writing to the control register. Both the (See Datasheet)", 15 AIN7 (in) "Analog Inputs. Eight analog inputs that can be used as eight single-ended inputs (referenced to AGND) or four pseudo-differential inputs. Channel configuration is selected by writing to the control register. Both the (See Datasheet)", 16 AIN8 (in) "Analog Inputs. Eight analog inputs that can be used as eight single-ended inputs (referenced to AGND) or four pseudo-differential inputs. Channel configuration is selected by writing to the control register. Both the (See Datasheet)", 17 ~{CAL} (in) "Calibration Input. This pin has an internal pull-up current source of 0.15 uA. A falling edge on this pin resets all calibration control logic and initiates a calibration on its rising edge. There is the option of connecting (See Datasheet)", 18 DVDD (power) "Digital Supply Voltage, +5.0 V +/- 5%.", 19 DGND (power) "Digital Ground. Ground reference point for digital circuitry.", 20 DOUT (hiz) "Serial Data Output. The data output is supplied to this pin as a 16-bit serial word.", 21 DIN (in) "Serial Data Input. The data to be written is applied to this pin in serial form (16-bit word). This pin can act as an input pin or as a I/O pin depending on the serial interface mode the part is in (see Table X).", 22 CLKIN (in) "Master clock signal for the device (A Grade: 6 MHz; K Grade: 4 MHz). Sets the conversion and calibration times.", 23 SCLK (in) "Serial Port Clock. Logic Input. The user must provide a serial clock on this input.", 24 ~{SYNC} (in) "Frame Sync. Logic Input. This pin is level triggered active low and frames the serial clock for the read and write operations (see Table IX)."

## AD7856AR-REEL
designator U?
Octal 14-Bit Sampling Analog-to-Digital Converter with Serial, SPI Interface, 5 V 285KSPS, -40 to +85 degC, RW-24, Reel; Part Number: AD7856; Manufacturer: Analog Devices; Resolution (Bits): 14; Channels: 8; Throughput Rate (SPS): 285K; Interface: Ser, SPI; DatasheetVersion: Rev.A; PackageVersion: 060706-A; PackageReference: RW-24; PackageDescription: 24-Lead Standard Small Outline Package [SOIC_W]; RoHS: N; Packing: Reel; Mounting Technology: Surface Mount; Code_JEDEC: MS-013-AD; ComponentLink1Description: Manufacturer URL; ComponentLink1URL: http://www.analog.com/en/index.html; ComponentLink2Description: Datasheet; ComponentLink2URL: http://www.analog.com/static/imported-files/data_sheets/AD7856.pdf; ComponentLink3Description: Package Specification; ComponentLink3URL: http://www.analog.com/static/imported-files/packages/33665150946139RW_24.pdf; ComponentLink4Description: Product URL; ComponentLink4URL: http://www.analog.com/en/analog-to-digital-converters/ad-converters/ad7856/products/product.html
footprint RW-24_N (SOIC, 24-Leads, Body 15.4x7.5mm, Pitch 1.27mm, IPC Medium Density)
footprint RW-24_L (SOIC, 24-Leads, Body 15.4x7.5mm, Pitch 1.27mm, IPC High Density)
footprint RW-24_M (SOIC, 24-Leads, Body 15.4x7.5mm, Pitch 1.27mm, IPC Low Density)
pins: 1 ~{CONVST} (in) "Convert Start. Logic Input. A low to high transition on this input puts the track/hold into its hold mode and starts conversion. When this input is not used, it should be tied to DVDD.", 2 BUSY (out) "Busy Output. The busy output is triggered high by the falling edge of C\O\N\V\S\T\ or rising edge of C\A\L\,and remains high until conversion is completed. BUSY is also used to indicate when the AD7856 has completed its (See Datasheet)", 3 ~{SLEEP} (in) "Sleep Input/Low Power Mode. A Logic 0 initiates a sleep, and all circuitry is powered down, including the internal voltage reference, provided there is no conversion or calibration being performed. Calibration data is (See Datasheet)", 4 REFIN/REFOUT (io) "Reference Input/Output. This pin is connected to the internal reference through a series resistor and is the reference source for the analog-to-digital converter. The nominal reference voltage is 4.096 V and this appears at (See Datasheet)", 5 AVDD (power) "Analog Positive Supply Voltage, +5.0 V +/- 5%.", 6 AGND (power) "Analog Ground. Ground reference for track/hold, reference and DAC.", 7 CREF1 "Reference Capacitor (0.1 uF Multilayer Ceramic in parallel with a 470 nF NPO type). This external capacitor is used as a charge source for the internal DAC. The capacitor should be tied between the pin and AGND.", 8 CREF2 "Reference Capacitor (0.01 uF Multilayer Ceramic). This external capacitor is used in conjunction with the on-chip reference. The capacitor should be tied between the pin and AGND.", 9 AIN1 (in) "Analog Inputs. Eight analog inputs that can be used as eight single-ended inputs (referenced to AGND) or four pseudo-differential inputs. Channel configuration is selected by writing to the control register. Both the (See Datasheet)", 10 AIN2 (in) "Analog Inputs. Eight analog inputs that can be used as eight single-ended inputs (referenced to AGND) or four pseudo-differential inputs. Channel configuration is selected by writing to the control register. Both the (See Datasheet)", 11 AIN3 (in) "Analog Inputs. Eight analog inputs that can be used as eight single-ended inputs (referenced to AGND) or four pseudo-differential inputs. Channel configuration is selected by writing to the control register. Both the (See Datasheet)", 12 AIN4 (in) "Analog Inputs. Eight analog inputs that can be used as eight single-ended inputs (referenced to AGND) or four pseudo-differential inputs. Channel configuration is selected by writing to the control register. Both the (See Datasheet)", 13 AIN5 (in) "Analog Inputs. Eight analog inputs that can be used as eight single-ended inputs (referenced to AGND) or four pseudo-differential inputs. Channel configuration is selected by writing to the control register. Both the (See Datasheet)", 14 AIN6 (in) "Analog Inputs. Eight analog inputs that can be used as eight single-ended inputs (referenced to AGND) or four pseudo-differential inputs. Channel configuration is selected by writing to the control register. Both the (See Datasheet)", 15 AIN7 (in) "Analog Inputs. Eight analog inputs that can be used as eight single-ended inputs (referenced to AGND) or four pseudo-differential inputs. Channel configuration is selected by writing to the control register. Both the (See Datasheet)", 16 AIN8 (in) "Analog Inputs. Eight analog inputs that can be used as eight single-ended inputs (referenced to AGND) or four pseudo-differential inputs. Channel configuration is selected by writing to the control register. Both the (See Datasheet)", 17 ~{CAL} (in) "Calibration Input. This pin has an internal pull-up current source of 0.15 uA. A falling edge on this pin resets all calibration control logic and initiates a calibration on its rising edge. There is the option of connecting (See Datasheet)", 18 DVDD (power) "Digital Supply Voltage, +5.0 V +/- 5%.", 19 DGND (power) "Digital Ground. Ground reference point for digital circuitry.", 20 DOUT (hiz) "Serial Data Output. The data output is supplied to this pin as a 16-bit serial word.", 21 DIN (in) "Serial Data Input. The data to be written is applied to this pin in serial form (16-bit word). This pin can act as an input pin or as a I/O pin depending on the serial interface mode the part is in (see Table X).", 22 CLKIN (in) "Master clock signal for the device (A Grade: 6 MHz; K Grade: 4 MHz). Sets the conversion and calibration times.", 23 SCLK (in) "Serial Port Clock. Logic Input. The user must provide a serial clock on this input.", 24 ~{SYNC} (in) "Frame Sync. Logic Input. This pin is level triggered active low and frames the serial clock for the read and write operations (see Table IX)."